# Altium footprint library DE-060718.PcbLib: 103 footprints (part 5 of 7)
Each footprint in its own frame and in the unit in brackets; x right, y up, seen from the top. Pads: shape width x height; smd on the part's side, far side on the other; paste and mask are expansions set on the pad; w line width, h text height; cw(c..) or ccw(c..) is an arc to the next point about the centre after c.
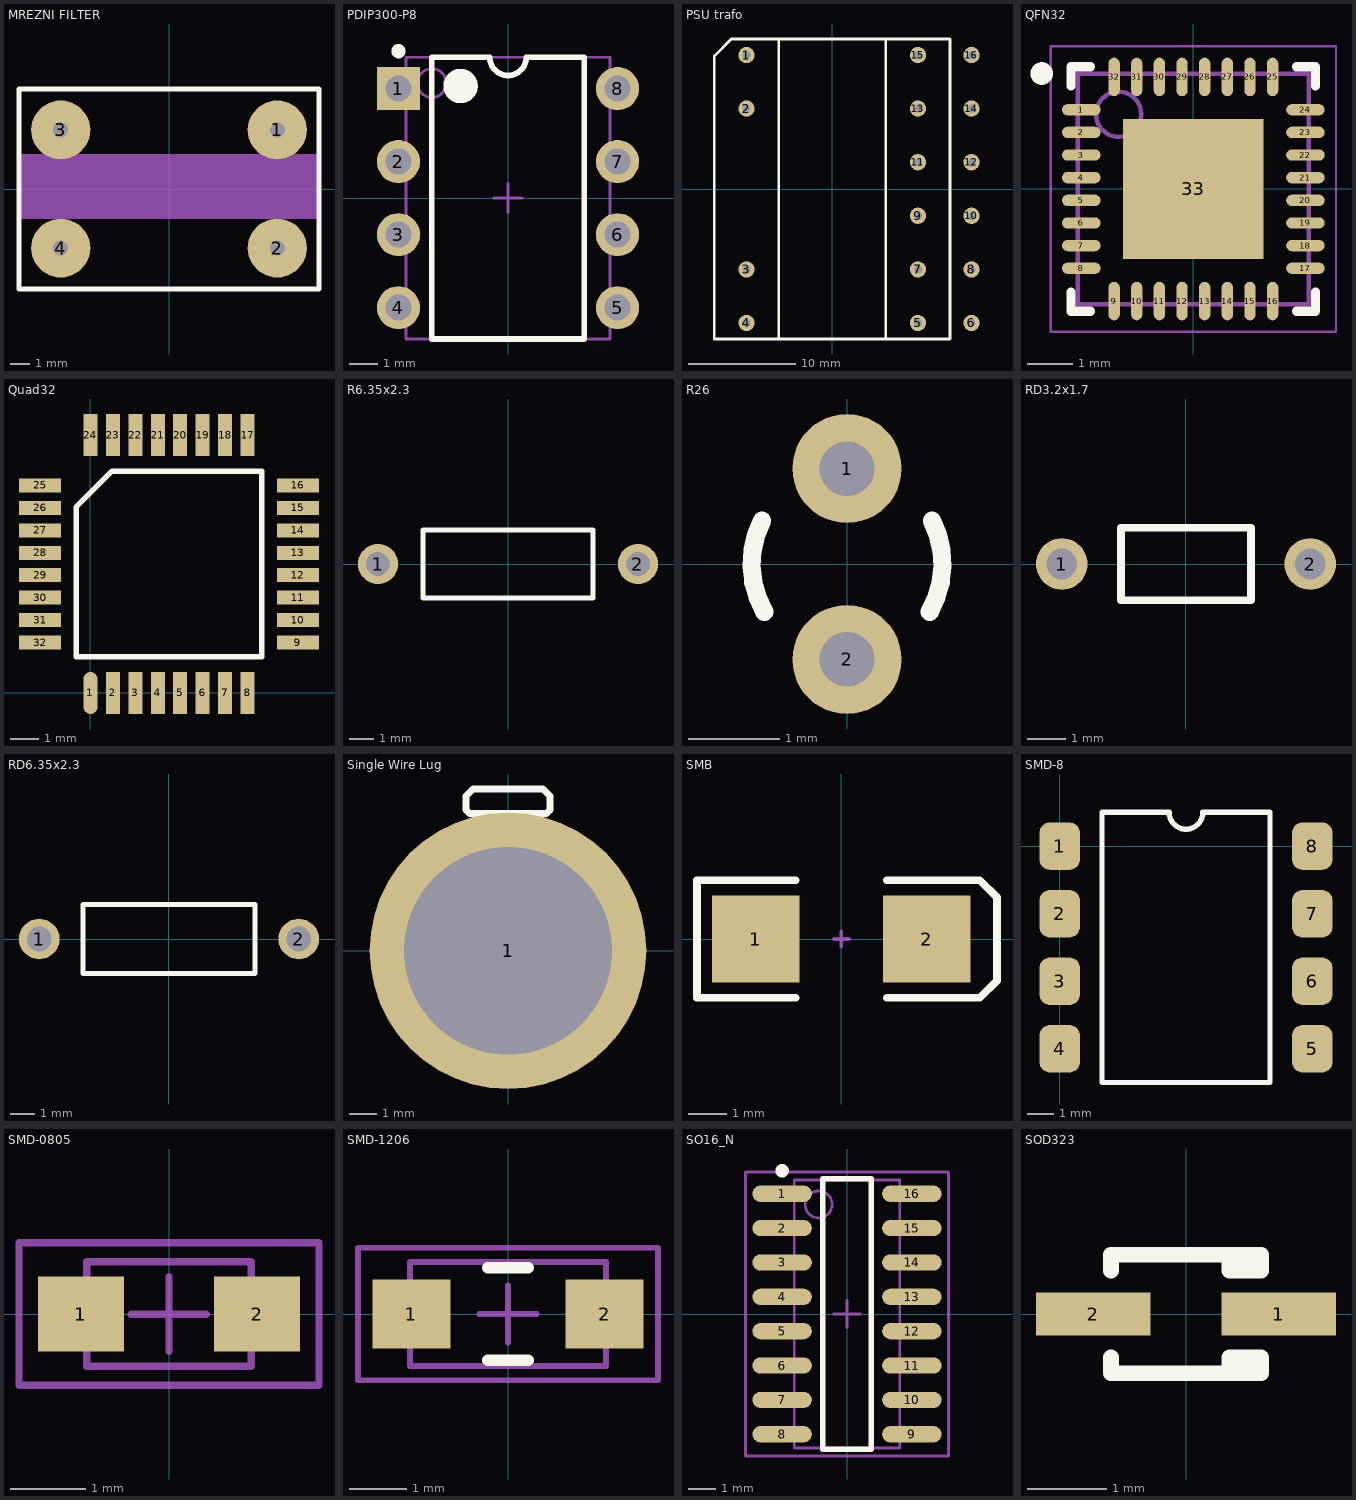
[diagram p4: the footprints below, top view; thin cyan lines are the x and y axes]

## MREZNI FILTER [mm] "Filter mrežnih smetnji"
height 0.381
pads (4):
  round 3 hole 0.762: 1(5.5,3) 2(5.5,-3) 3(-5.5,3) 4(-5.5,-3)
Top Overlay:
  lines w0.254: -7.62,-5.08 7.62,-5.08 7.62,5.08 -7.62,5.08 -7.62,-5.08
Mechanical 1:
  rectangle: -7.62,-1.524 7.62,1.778

## PDIP300-P8 [mm] "DIP, 8-Leads, Row Spacing 7.62mm, Pitch 2.54mm, Body 9.5x6.6mm"
height 5.34
pads (8):
  rect 1.5x1.5 hole 0.9: 1(-3.81,3.81)
  round 1.5 hole 0.9: 2(-3.81,1.27) 3(-3.81,-1.27) 4(-3.81,-3.81) 5(3.81,-3.81) 6(3.81,-1.27) 7(3.81,1.27) 8(3.81,3.81)
Top Overlay:
  circle w0.6: c-1.65,3.9 r0.3
  circle w0.25: c-3.81,5.11 r0.125
  lines w0.2: -2.65,-4.9 2.65,-4.9 2.65,4.9 0.635,4.9 cw(c0,4.9) -0.635,4.9 -2.65,4.9 -2.65,-4.9
Mechanical 13:
  circle w0.1: c-2.65,4 r0.5
  lines w0.1: -3.55,-4.9 3.55,-4.9 3.55,4.9 -3.55,4.9 -3.55,-4.9
Mechanical 15:
  lines w0.1: -0.5,0 0.5,0 ; 0,-0.5 0,0.5
3D body: height 5.34, standoff 0, extent -3.55,-4.9 3.55,4.9

## PSU trafo [mil] "SMPSU feritni trafo"
height 984.25
pads (16):
  round 60 hole 30: 1(-314.96,492.13) 2(-314.96,295.28) 3(-314.96,-295.28) 4(-314.96,-492.13) 5(314.96,-492.13) 6(511.81,-492.13) 7(314.96,-295.28) 8(511.81,-295.28) 9(314.96,-98.43) 10(511.81,-98.43) 11(314.96,98.43) 12(511.81,98.43) 13(314.96,295.28) 14(511.81,295.28) 15(314.96,492.13) 16(511.81,492.13)
Top Overlay:
  lines w10: -371,551 -433.07,488.93 -433.07,-551.18 433.07,-551.18 433.07,551 ; -371,551.18 433.07,551.18 ; -196.85,-551.18 196.85,-551.18 196.85,551.18 -196.85,551.18 -196.85,-551.18
3D body: height 787.4, standoff 196.85, extent 250,-400 430,400
3D body: height 787.4, standoff 196.85, extent -430,-400 -250,400
3D body: height 944.88, standoff 196.85, extent -250,-550 250,550

## QFN32 [mm] "32 pin QFN"
height 0.1
pads (33):
  oval 0.85x0.25 smd: 1(-2.475,1.75) 2(-2.475,1.25) 3(-2.475,0.75) 4(-2.475,0.25) 5(-2.475,-0.25) 6(-2.475,-0.75) 7(-2.475,-1.25) 8(-2.475,-1.75) 17(2.475,-1.75) 18(2.475,-1.25) 19(2.475,-0.75) 20(2.475,-0.25) 21(2.475,0.25) 22(2.475,0.75) 23(2.475,1.25) 24(2.475,1.75)
  oval 0.25x0.85 smd: 9(-1.75,-2.475) 10(-1.25,-2.475) 11(-0.75,-2.475) 12(-0.25,-2.475) 13(0.25,-2.475) 14(0.75,-2.475) 15(1.25,-2.475) 16(1.75,-2.475) 25(1.75,2.475) 26(1.25,2.475) 27(0.75,2.475) 28(0.25,2.475) 29(-0.25,2.475) 30(-0.75,2.475) 31(-1.25,2.475) 32(-1.75,2.475)
  rect 3.1x3.1 smd: 33(0,0)
Top Overlay:
  circle w0.25: c-3.35,2.55 r0.125
  lines w0.2: -2.7,-2.275 -2.7,-2.7 -2.275,-2.7 ; -2.7,2.275 -2.7,2.7 -2.275,2.7 ; 2.275,-2.7 2.7,-2.7 2.7,-2.275 ; 2.275,2.7 2.7,2.7 2.7,2.275
Mechanical 13:
  circle w0.1: c-1.65,1.65 r0.5
  lines w0.1: -2.55,-2.55 -2.55,2.55 2.55,2.55 2.55,-2.55 -2.55,-2.55
Mechanical 15:
  lines w0.05: -3.15,-3.15 -3.15,3.15 3.15,3.15 3.15,-3.15 -3.15,-3.15
  lines w0.1: -0.5,0 0.5,0 ; 0,-0.5 0,0.5
3D body: height 0.8, standoff 0, extent -2.55,-2.55 2.55,2.55

## Quad32 [mm] "STM32 QLF32 package"
height 3
pads (32):
  oval 0.5x1.5 smd: 1(0,0)
  rect 0.5x1.5 smd: 2(0.8,0) 3(1.6,0) 4(2.4,0) 5(3.2,0) 6(4,0) 7(4.8,0) 8(5.6,0) 17(5.6,9.2) 18(4.8,9.2) 19(4,9.2) 20(3.2,9.2) 21(2.4,9.2) 22(1.6,9.2) 23(0.8,9.2) 24(0,9.2)
  rect 1.5x0.5 smd: 9(7.4,1.8) 10(7.4,2.6) 11(7.4,3.4) 12(7.4,4.2) 13(7.4,5) 14(7.4,5.8) 15(7.4,6.6) 16(7.4,7.4) 25(-1.8,7.4) 26(-1.8,6.6) 27(-1.8,5.8) 28(-1.8,5) 29(-1.8,4.2) 30(-1.8,3.4) 31(-1.8,2.6) 32(-1.8,1.8)
Top Overlay:
  lines w0.2: -0.515,1.285 -0.515,6.63 0.77,7.915 6.115,7.915 6.115,1.285 -0.515,1.285

## R6.35x2.3 [mm] "Resistor, Axial; Body 7 x 2.8 mm (LxDia. max), Lead Dia. 0.7 mm (max)"
height 2.8
pads (2):
  round 1.65 hole 1: 1(-5.35,0) 2(5.35,0)
Top Overlay:
  lines w0.2: -3.5,-1.4 3.5,-1.4 3.5,1.4 -3.5,1.4 -3.5,-1.4

## R26 [mm] "Crystal, Thru-Hole; 2 Leads; Body 2.1 x 6.2 mm (Dia.xH)"
height 6.2
pads (2):
  round 1.2 hole 0.6: 1(0,1.05) 2(0,-1.05)
Top Overlay:
  lines w0.2: -0.936,0.477 ccw(c0,0) -0.909,-0.525 ; 0.909,-0.525 ccw(c0,0) 0.936,0.477

## RD3.2x1.7 [mm] "Resistor, Axial; Body 3.4 x 1.9 mm (LxDia. max), Lead Dia. 0.5 mm (max)"
height 1.9
pads (2):
  round 1.35 hole 0.8: 1(-3.25,0) 2(3.25,0)
Top Overlay:
  lines w0.2: -1.7,-0.95 -1.7,0.95 1.7,0.95 1.7,-0.95 -1.7,-0.95

## RD6.35x2.3 [mm] "Resistor, Axial; Body 7 x 2.8 mm (LxDia. max), Lead Dia. 0.65 mm (max)"
height 2.8
pads (2):
  round 1.65 hole 1: 1(-5.275,0) 2(5.275,0)
Top Overlay:
  lines w0.2: -3.5,-1.4 3.5,-1.4 3.5,1.4 -3.5,1.4 -3.5,-1.4

## Single Wire Lug [mm] "Single Wire terminal Connector"
height 11.5
pads (1):
  round 10 hole 7.5: 1(0,0)
Top Overlay:
  circle w0.254: c0,0 r2.8
  lines w0.254: -3,3.8 -3.217,0.495 ccw(c-0.005,0.001) 3.205,0.513 3,3.8 ; -3,3.81 3,3.81 ; -0.635,3.81 -0.635,4.953 ; -0.635,4.064 -0.127,4.064 0.508,4.699 ; -0.635,4.445 -0.381,4.445 0.127,4.953 0.254,4.953 ; 0.381,3.937 0.635,4.191 ; 0.635,3.81 0.635,4.953 ; -0.635,4.953 -1.397,4.953 -1.524,5.08 -1.524,5.588 -1.27,5.842 1.27,5.842 1.524,5.588 1.524,5.08 1.397,4.953 0.635,4.953 ; -0.635,4.953 0.635,4.953
3D body: height 11.5, standoff 0, extent -3.5,-3.5 3.5,3.5

## SMB [mm] "DO-214-AA/SMB; 2 C-Bend Leads; Body 5.3 x 3.6 mm, inc. leads (LxW)"
height 2.54
pads (2):
  rect 2.3x2.3 smd: 1(-2.25,0) 2(2.25,0)
Top Overlay:
  lines w0.2: -1.2,-1.55 -3.8,-1.55 -3.8,1.55 -1.2,1.55 ; 1.2,-1.55 3.65,-1.55 4.1,-1.1 4.1,1.1 3.65,1.55 1.2,1.55
Mechanical 1:
  lines w0.1: -0.2,0 0.2,0 ; 0,-0.2 0,0.2

## SMD-8 [mm]
pads (8):
  rrect50% 1.52x1.78 smd: 1(0,0) 2(0,-2.54) 3(0,-5.08) 4(0,-7.62) 5(9.5,-7.62) 6(9.5,-5.08) 7(9.5,-2.54) 8(9.5,0)
Top Overlay:
  lines w0.2: 1.595,-8.89 1.595,1.27 4.115,1.27 ccw(c4.75,1.27) 5.385,1.27 7.905,1.27 7.905,-8.89 1.595,-8.89
3D body: height 3.55, standoff 0.18, extent 1.27,-8.89 8.382,1.27

## SMD-0805 [mm] "Chip Inductor, 2-Leads, Body 2.0x1.2mm"
height 1.1
pads (2):
  rect 1.15x1 smd: 1(-1.175,0) 2(1.175,0)
Mechanical 13:
  lines w0.1: -1.1,-0.7 -1.1,0.7 1.1,0.7 1.1,-0.7 -1.1,-0.7
Mechanical 15:
  lines w0.1: -0.5,0 0.5,0 ; 0,-0.5 0,0.5 ; -2,-0.95 -2,0.95 2,0.95 2,-0.95 -2,-0.95
3D body "74279201.stp": height 1.1, standoff -0.01, extent -1,-0.6 1,0.6

## SMD-1206 [mm] "Chip Inductor, 2-Leads, Body 3.2x1.6mm"
height 1.3
pads (2):
  rect 1.35x1.2 smd: 1(-1.675,0) 2(1.675,0)
Top Overlay:
  lines w0.2: -0.35,-0.8 0.35,-0.8 ; -0.35,0.8 0.35,0.8
Mechanical 13:
  lines w0.1: -1.7,-0.9 1.7,-0.9 1.7,0.9 -1.7,0.9 -1.7,-0.9
Mechanical 15:
  lines w0.1: -0.5,0 0.5,0 ; 0,-0.5 0,0.5 ; -2.6,-1.15 2.6,-1.15 2.6,1.15 -2.6,1.15 -2.6,-1.15
3D body "74279210.stp": height 1.3, standoff -0.01, extent -1.6,-0.8 1.6,0.8

## SO16_N [mm] "SOIC, 16-Leads, Body 9.9x3.9mm, Pitch 1.27mm, IPC Medium Density"
height 1.75
pads (16):
  oval 2.2x0.6 smd: 1(-2.4,4.445) 2(-2.4,3.175) 3(-2.4,1.905) 4(-2.4,0.635) 5(-2.4,-0.635) 6(-2.4,-1.905) 7(-2.4,-3.175) 8(-2.4,-4.445) 9(2.4,-4.445) 10(2.4,-3.175) 11(2.4,-1.905) 12(2.4,-0.635) 13(2.4,0.635) 14(2.4,1.905) 15(2.4,3.175) 16(2.4,4.445)
Top Overlay:
  circle w0.25: c-2.4,5.295 r0.125
  lines w0.2: -0.9,-5 -0.9,5 0.9,5 0.9,-5 -0.9,-5
Mechanical 13:
  circle w0.1: c-1.05,4.05 r0.5
  lines w0.1: -1.95,-4.95 -1.95,4.95 1.95,4.95 1.95,-4.95 -1.95,-4.95
Mechanical 15:
  lines w0.1: -0.5,0 0.5,0 ; 0,-0.5 0,0.5 ; -3.75,-5.25 -3.75,5.25 3.75,5.25 3.75,-5.25 -3.75,-5.25
3D body: height 1.75, standoff 0, extent -1.95,-4.95 1.95,4.95

## SOD323 [mm] "SOD-323/SC-76; 2 Leads; Body 1.7 x 1.3 mm, (LxW)"
height 1.1
pads (2):
  rect 1.45x0.55 smd: 1(1.175,0) 2(-1.175,0)
Top Overlay:
  lines w0.2: -0.95,-0.55 -0.95,-0.75 0.95,-0.75 0.95,-0.55 0.55,-0.55 0.55,-0.75 ; -0.95,0.55 -0.95,0.75 0.95,0.75 0.95,0.55 0.55,0.55 0.55,0.75